# Altium integrated library Analog Devices Data Converters Analog-to-Digital Converters.IntLib: 2404 symbols (part 266 of 346)
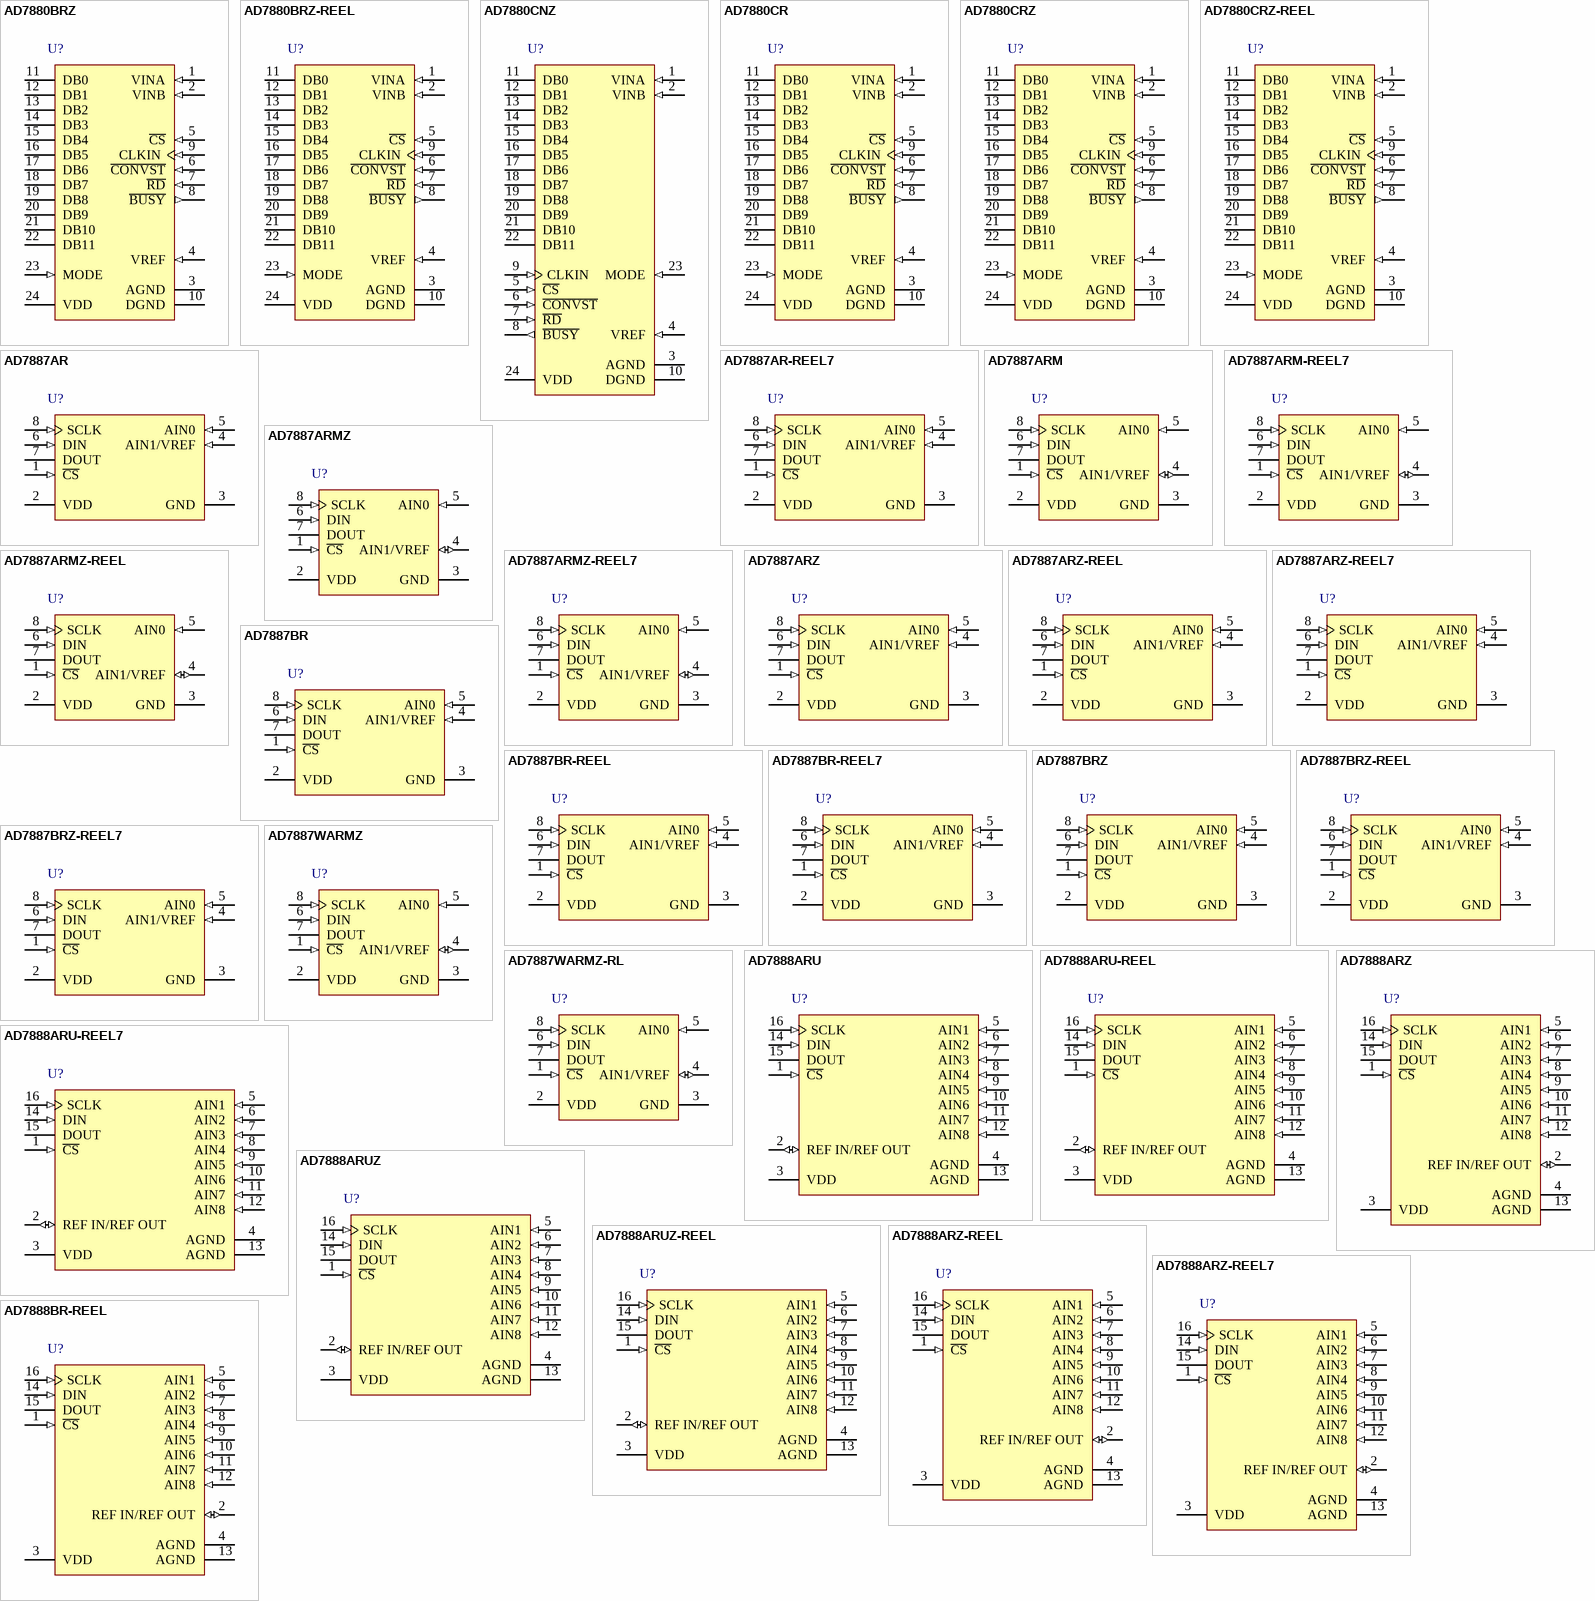
[diagram p296: symbols AD7880BRZ to AD7888BR-REEL]

## AD7888ARZ-REEL
designator U?
Octal 12-Bit Analog-to-Digital Converter with Serial, SPI Interface, Micropower, 2.7 V to 5.25 V, 125KSPS, -40 to +105 degC, R-16, Pb-Free, Reel; Generic Part Number: AD7888; Manufacturer: Analog Devices; PartNumber: AD7888ARZ-REEL; Resolution (Bits): 12; Channels: 8; Throughput Rate (SPS): 125K; Interface: Ser, SPI; DatasheetVersion: Rev.C; PackageVersion: 060606-A; PackageReference: R-16; PackageDescription: 16-Lead Standard Small Outline Package [SOIC_N] Narrow Body; Supplier 1: Digi-Key; Supplier Part Number 1: AD7888ARZ-REEL-ND; Supplier 2: Mouser; Supplier Part Number 2: N/A; RoHS: Y; Packing: Reel; Mounting Technology: Surface Mount; Code_JEDEC: MS-012-AC; ComponentLink1Description: Manufacturer URL; ComponentLink1URL: http://www.analog.com/en/index.html; ComponentLink2Description: Datasheet; ComponentLink2URL: http://www.analog.com/static/imported-files/data_sheets/AD7888.pdf; ComponentLink3Description: Package Specification; ComponentLink3URL: http://www.analog.com/static/imported-files/packages/PKG_PDF/SOIC_Narrow%20(R)/R_16.pdf; ComponentLink4Description: Product URL; ComponentLink4URL: http://www.analog.com/en/analog-to-digital-converters/ad-converters/ad7888/products/product.html
footprint R-16_N (SOIC, 16-Leads, Body 9.9x3.9mm, Pitch 1.27mm, IPC Medium Density)
footprint R-16_L (SOIC, 16-Leads, Body 9.9x3.9mm, Pitch 1.27mm, IPC High Density)
footprint R-16_M (SOIC, 16-Leads, Body 9.9x3.9mm, Pitch 1.27mm, IPC Low Density)
pins: 1 ~{CS} (in) "Chip Select. Active low logic input. This input provides the dual function of initiating conversions on the AD7888 and also frames the serial data transfer.", 2 REF IN/REF OUT (io) "Reference Input/Output. The on-chip reference is available on this pin for use external to the AD7888.", 3 VDD (power) "Power Supply Input. The VDD range for the AD7888 is from 2.7 V to 5.25 V.", 4 AGND (power) "Analog Ground. Ground reference point for all circuitry on the AD7888. All analog input signals and any external reference signals should be referred to this AGND voltage. Both of these pins should connect to the AGND plane (See Datasheet)", 5 AIN1 (in) "Analog Input 1 through Analog Input 8. Eight single-ended analog input channels that are multiplexed into the on-chip track/hold. The analog input channel to be converted is selected by using the ADD0 through ADD2 bits of (See Datasheet)", 6 AIN2 (in) "Analog Input 1 through Analog Input 8. Eight single-ended analog input channels that are multiplexed into the on-chip track/hold. The analog input channel to be converted is selected by using the ADD0 through ADD2 bits of (See Datasheet)", 7 AIN3 (in) "Analog Input 1 through Analog Input 8. Eight single-ended analog input channels that are multiplexed into the on-chip track/hold. The analog input channel to be converted is selected by using the ADD0 through ADD2 bits of (See Datasheet)", 8 AIN4 (in) "Analog Input 1 through Analog Input 8. Eight single-ended analog input channels that are multiplexed into the on-chip track/hold. The analog input channel to be converted is selected by using the ADD0 through ADD2 bits of (See Datasheet)", 9 AIN5 (in) "Analog Input 1 through Analog Input 8. Eight single-ended analog input channels that are multiplexed into the on-chip track/hold. The analog input channel to be converted is selected by using the ADD0 through ADD2 bits of (See Datasheet)", 10 AIN6 (in) "Analog Input 1 through Analog Input 8. Eight single-ended analog input channels that are multiplexed into the on-chip track/hold. The analog input channel to be converted is selected by using the ADD0 through ADD2 bits of (See Datasheet)", 11 AIN7 (in) "Analog Input 1 through Analog Input 8. Eight single-ended analog input channels that are multiplexed into the on-chip track/hold. The analog input channel to be converted is selected by using the ADD0 through ADD2 bits of (See Datasheet)", 12 AIN8 (in) "Analog Input 1 through Analog Input 8. Eight single-ended analog input channels that are multiplexed into the on-chip track/hold. The analog input channel to be converted is selected by using the ADD0 through ADD2 bits of (See Datasheet)", 13 AGND (power) "Analog Ground. Ground reference point for all circuitry on the AD7888. All analog input signals and any external reference signals should be referred to this AGND voltage. Both of these pins should connect to the AGND plane (See Datasheet)", 14 DIN (in) "Data In. Logic Input. Data to be written to the AD7888’s Control Register is provided on this input and is clocked into the register on the rising edge of SCLK (see Control Register section).", 15 DOUT (hiz) "Data Out. Logic Output. The conversion result from the AD7888 is provided on this output as a serial data stream. The bits are clocked out on the falling edge of the SCLK input. The data stream consists data stream. The bits (See Datasheet)", 16 SCLK (in) "Serial Clock. Logic Input. SCLK provides the serial clock for accessing data from the part and writing serial data to the Control Register. This clock input is also used as the clock source for the AD7888’s conversion (See Datasheet)"

## AD7888ARZ-REEL7
designator U?
Octal 12-Bit Analog-to-Digital Converter with Serial, SPI Interface, Micropower, 2.7 V to 5.25 V, 125KSPS, -40 to +105 degC, R-16, Pb-Free, Reel; Generic Part Number: AD7888; Manufacturer: Analog Devices; PartNumber: AD7888ARZ-REEL7; Resolution (Bits): 12; Channels: 8; Throughput Rate (SPS): 125K; Interface: Ser, SPI; DatasheetVersion: Rev.C; PackageVersion: 060606-A; PackageReference: R-16; PackageDescription: 16-Lead Standard Small Outline Package [SOIC_N] Narrow Body; Supplier 1: Digi-Key; Supplier Part Number 1: AD7888ARZ-REEL7TR-ND; Supplier 2: Digi-Key; Supplier Part Number 2: AD7888ARZ-REEL7CT-ND; Supplier 3: Digi-Key; Supplier Part Number 3: AD7888ARZ-REEL7DKR-ND; Supplier 4: Newark; Supplier Part Number 4: 88H0069; Supplier 5: Mouser; Supplier Part Number 5: 584-AD7888ARZ-R7; RoHS: Y; Packing: Reel; Mounting Technology: Surface Mount; Code_JEDEC: MS-012-AC; ComponentLink1Description: Manufacturer URL; ComponentLink1URL: http://www.analog.com/en/index.html; ComponentLink2Description: Datasheet; ComponentLink2URL: http://www.analog.com/static/imported-files/data_sheets/AD7888.pdf; ComponentLink3Description: Package Specification; ComponentLink3URL: http://www.analog.com/static/imported-files/packages/PKG_PDF/SOIC_Narrow%20(R)/R_16.pdf; ComponentLink4Description: Product URL; ComponentLink4URL: http://www.analog.com/en/analog-to-digital-converters/ad-converters/ad7888/products/product.html
footprint R-16_N (SOIC, 16-Leads, Body 9.9x3.9mm, Pitch 1.27mm, IPC Medium Density)
footprint R-16_L (SOIC, 16-Leads, Body 9.9x3.9mm, Pitch 1.27mm, IPC High Density)
footprint R-16_M (SOIC, 16-Leads, Body 9.9x3.9mm, Pitch 1.27mm, IPC Low Density)
pins: 1 ~{CS} (in) "Chip Select. Active low logic input. This input provides the dual function of initiating conversions on the AD7888 and also frames the serial data transfer.", 2 REF IN/REF OUT (io) "Reference Input/Output. The on-chip reference is available on this pin for use external to the AD7888.", 3 VDD (power) "Power Supply Input. The VDD range for the AD7888 is from 2.7 V to 5.25 V.", 4 AGND (power) "Analog Ground. Ground reference point for all circuitry on the AD7888. All analog input signals and any external reference signals should be referred to this AGND voltage. Both of these pins should connect to the AGND plane (See Datasheet)", 5 AIN1 (in) "Analog Input 1 through Analog Input 8. Eight single-ended analog input channels that are multiplexed into the on-chip track/hold. The analog input channel to be converted is selected by using the ADD0 through ADD2 bits of (See Datasheet)", 6 AIN2 (in) "Analog Input 1 through Analog Input 8. Eight single-ended analog input channels that are multiplexed into the on-chip track/hold. The analog input channel to be converted is selected by using the ADD0 through ADD2 bits of (See Datasheet)", 7 AIN3 (in) "Analog Input 1 through Analog Input 8. Eight single-ended analog input channels that are multiplexed into the on-chip track/hold. The analog input channel to be converted is selected by using the ADD0 through ADD2 bits of (See Datasheet)", 8 AIN4 (in) "Analog Input 1 through Analog Input 8. Eight single-ended analog input channels that are multiplexed into the on-chip track/hold. The analog input channel to be converted is selected by using the ADD0 through ADD2 bits of (See Datasheet)", 9 AIN5 (in) "Analog Input 1 through Analog Input 8. Eight single-ended analog input channels that are multiplexed into the on-chip track/hold. The analog input channel to be converted is selected by using the ADD0 through ADD2 bits of (See Datasheet)", 10 AIN6 (in) "Analog Input 1 through Analog Input 8. Eight single-ended analog input channels that are multiplexed into the on-chip track/hold. The analog input channel to be converted is selected by using the ADD0 through ADD2 bits of (See Datasheet)", 11 AIN7 (in) "Analog Input 1 through Analog Input 8. Eight single-ended analog input channels that are multiplexed into the on-chip track/hold. The analog input channel to be converted is selected by using the ADD0 through ADD2 bits of (See Datasheet)", 12 AIN8 (in) "Analog Input 1 through Analog Input 8. Eight single-ended analog input channels that are multiplexed into the on-chip track/hold. The analog input channel to be converted is selected by using the ADD0 through ADD2 bits of (See Datasheet)", 13 AGND (power) "Analog Ground. Ground reference point for all circuitry on the AD7888. All analog input signals and any external reference signals should be referred to this AGND voltage. Both of these pins should connect to the AGND plane (See Datasheet)", 14 DIN (in) "Data In. Logic Input. Data to be written to the AD7888’s Control Register is provided on this input and is clocked into the register on the rising edge of SCLK (see Control Register section).", 15 DOUT (hiz) "Data Out. Logic Output. The conversion result from the AD7888 is provided on this output as a serial data stream. The bits are clocked out on the falling edge of the SCLK input. The data stream consists data stream. The bits (See Datasheet)", 16 SCLK (in) "Serial Clock. Logic Input. SCLK provides the serial clock for accessing data from the part and writing serial data to the Control Register. This clock input is also used as the clock source for the AD7888’s conversion (See Datasheet)"

## AD7888BR-REEL
designator U?
Octal 12-Bit Analog-to-Digital Converter with Serial, SPI Interface, Micropower, 2.7 V to 5.25 V, 125KSPS, -40 to +105 degC, R-16, Reel; Generic Part Number: AD7888; Manufacturer: Analog Devices; PartNumber: AD7888BR-REEL; Resolution (Bits): 12; Channels: 8; Throughput Rate (SPS): 125K; Interface: Ser, SPI; DatasheetVersion: Rev.C; PackageVersion: 060606-A; PackageReference: R-16; PackageDescription: 16-Lead Standard Small Outline Package [SOIC_N] Narrow Body; Supplier 1: Digi-Key; Supplier Part Number 1: AD7888BR-REELTR-ND; Supplier 2: Digi-Key; Supplier Part Number 2: AD7888BR-REELCT-ND; Supplier 3: Digi-Key; Supplier Part Number 3: AD7888BR-REELDKR-ND; Supplier 4: Newark; Supplier Part Number 4: 28M4078; Supplier 5: Mouser; Supplier Part Number 5: 584-AD7888BR-R; RoHS: N; Packing: Reel; Mounting Technology: Surface Mount; Code_JEDEC: MS-012-AC; ComponentLink1Description: Manufacturer URL; ComponentLink1URL: http://www.analog.com/en/index.html; ComponentLink2Description: Datasheet; ComponentLink2URL: http://www.analog.com/static/imported-files/data_sheets/AD7888.pdf; ComponentLink3Description: Package Specification; ComponentLink3URL: http://www.analog.com/static/imported-files/packages/PKG_PDF/SOIC_Narrow%20(R)/R_16.pdf; ComponentLink4Description: Product URL; ComponentLink4URL: http://www.analog.com/en/analog-to-digital-converters/ad-converters/ad7888/products/product.html
footprint R-16_N (SOIC, 16-Leads, Body 9.9x3.9mm, Pitch 1.27mm, IPC Medium Density)
footprint R-16_L (SOIC, 16-Leads, Body 9.9x3.9mm, Pitch 1.27mm, IPC High Density)
footprint R-16_M (SOIC, 16-Leads, Body 9.9x3.9mm, Pitch 1.27mm, IPC Low Density)
pins: 1 ~{CS} (in) "Chip Select. Active low logic input. This input provides the dual function of initiating conversions on the AD7888 and also frames the serial data transfer.", 2 REF IN/REF OUT (io) "Reference Input/Output. The on-chip reference is available on this pin for use external to the AD7888.", 3 VDD (power) "Power Supply Input. The VDD range for the AD7888 is from 2.7 V to 5.25 V.", 4 AGND (power) "Analog Ground. Ground reference point for all circuitry on the AD7888. All analog input signals and any external reference signals should be referred to this AGND voltage. Both of these pins should connect to the AGND plane (See Datasheet)", 5 AIN1 (in) "Analog Input 1 through Analog Input 8. Eight single-ended analog input channels that are multiplexed into the on-chip track/hold. The analog input channel to be converted is selected by using the ADD0 through ADD2 bits of (See Datasheet)", 6 AIN2 (in) "Analog Input 1 through Analog Input 8. Eight single-ended analog input channels that are multiplexed into the on-chip track/hold. The analog input channel to be converted is selected by using the ADD0 through ADD2 bits of (See Datasheet)", 7 AIN3 (in) "Analog Input 1 through Analog Input 8. Eight single-ended analog input channels that are multiplexed into the on-chip track/hold. The analog input channel to be converted is selected by using the ADD0 through ADD2 bits of (See Datasheet)", 8 AIN4 (in) "Analog Input 1 through Analog Input 8. Eight single-ended analog input channels that are multiplexed into the on-chip track/hold. The analog input channel to be converted is selected by using the ADD0 through ADD2 bits of (See Datasheet)", 9 AIN5 (in) "Analog Input 1 through Analog Input 8. Eight single-ended analog input channels that are multiplexed into the on-chip track/hold. The analog input channel to be converted is selected by using the ADD0 through ADD2 bits of (See Datasheet)", 10 AIN6 (in) "Analog Input 1 through Analog Input 8. Eight single-ended analog input channels that are multiplexed into the on-chip track/hold. The analog input channel to be converted is selected by using the ADD0 through ADD2 bits of (See Datasheet)", 11 AIN7 (in) "Analog Input 1 through Analog Input 8. Eight single-ended analog input channels that are multiplexed into the on-chip track/hold. The analog input channel to be converted is selected by using the ADD0 through ADD2 bits of (See Datasheet)", 12 AIN8 (in) "Analog Input 1 through Analog Input 8. Eight single-ended analog input channels that are multiplexed into the on-chip track/hold. The analog input channel to be converted is selected by using the ADD0 through ADD2 bits of (See Datasheet)", 13 AGND (power) "Analog Ground. Ground reference point for all circuitry on the AD7888. All analog input signals and any external reference signals should be referred to this AGND voltage. Both of these pins should connect to the AGND plane (See Datasheet)", 14 DIN (in) "Data In. Logic Input. Data to be written to the AD7888’s Control Register is provided on this input and is clocked into the register on the rising edge of SCLK (see Control Register section).", 15 DOUT (hiz) "Data Out. Logic Output. The conversion result from the AD7888 is provided on this output as a serial data stream. The bits are clocked out on the falling edge of the SCLK input. The data stream consists data stream. The bits (See Datasheet)", 16 SCLK (in) "Serial Clock. Logic Input. SCLK provides the serial clock for accessing data from the part and writing serial data to the Control Register. This clock input is also used as the clock source for the AD7888’s conversion (See Datasheet)"

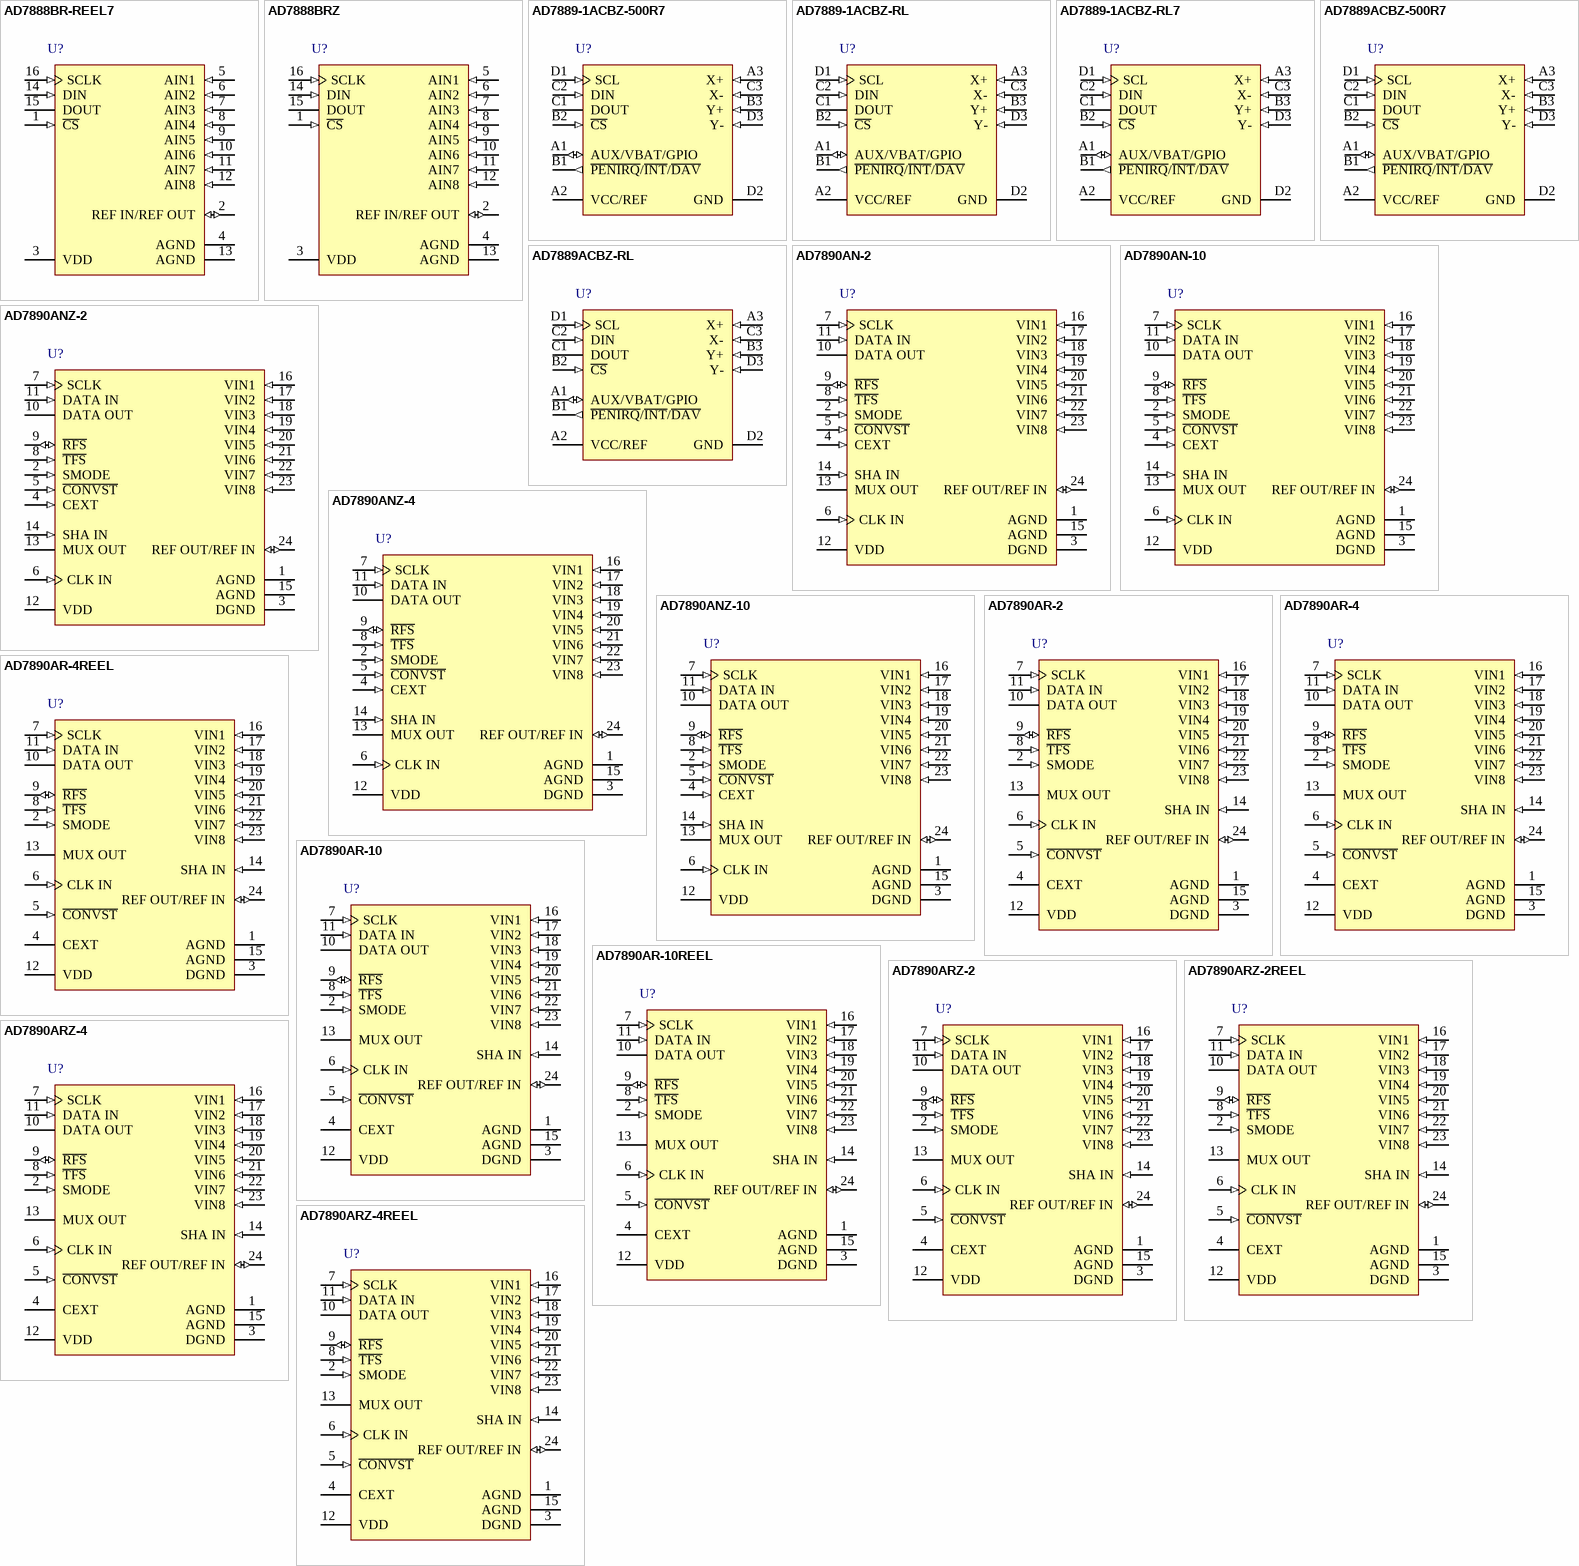
[diagram p79: symbols AD7888BR-REEL7 to AD7890ARZ-4REEL]

## AD7888BR-REEL7
designator U?
Octal 12-Bit Analog-to-Digital Converter with Serial, SPI Interface, Micropower, 2.7 V to 5.25 V, 125KSPS, -40 to +105 degC, R-16, Reel; Generic Part Number: AD7888; Manufacturer: Analog Devices; PartNumber: AD7888BR-REEL7; Resolution (Bits): 12; Channels: 8; Throughput Rate (SPS): 125K; Interface: Ser, SPI; DatasheetVersion: Rev.C; PackageVersion: 060606-A; PackageReference: R-16; PackageDescription: 16-Lead Standard Small Outline Package [SOIC_N] Narrow Body; Supplier 1: Digi-Key; Supplier Part Number 1: AD7888BR-REEL7TR-ND; Supplier 2: Digi-Key; Supplier Part Number 2: AD7888BR-REEL7CT-ND; Supplier 3: Digi-Key; Supplier Part Number 3: AD7888BR-REEL7DKR-ND; Supplier 4: Newark; Supplier Part Number 4: 28M4079; Supplier 5: Mouser; Supplier Part Number 5: 584-AD7888BR-R7; RoHS: N; Packing: Reel; Mounting Technology: Surface Mount; Code_JEDEC: MS-012-AC; ComponentLink1Description: Manufacturer URL; ComponentLink1URL: http://www.analog.com/en/index.html; ComponentLink2Description: Datasheet; ComponentLink2URL: http://www.analog.com/static/imported-files/data_sheets/AD7888.pdf; ComponentLink3Description: Package Specification; ComponentLink3URL: http://www.analog.com/static/imported-files/packages/PKG_PDF/SOIC_Narrow%20(R)/R_16.pdf; ComponentLink4Description: Product URL; ComponentLink4URL: http://www.analog.com/en/analog-to-digital-converters/ad-converters/ad7888/products/product.html
footprint R-16_N (SOIC, 16-Leads, Body 9.9x3.9mm, Pitch 1.27mm, IPC Medium Density)
footprint R-16_L (SOIC, 16-Leads, Body 9.9x3.9mm, Pitch 1.27mm, IPC High Density)
footprint R-16_M (SOIC, 16-Leads, Body 9.9x3.9mm, Pitch 1.27mm, IPC Low Density)
pins: 1 ~{CS} (in) "Chip Select. Active low logic input. This input provides the dual function of initiating conversions on the AD7888 and also frames the serial data transfer.", 2 REF IN/REF OUT (io) "Reference Input/Output. The on-chip reference is available on this pin for use external to the AD7888.", 3 VDD (power) "Power Supply Input. The VDD range for the AD7888 is from 2.7 V to 5.25 V.", 4 AGND (power) "Analog Ground. Ground reference point for all circuitry on the AD7888. All analog input signals and any external reference signals should be referred to this AGND voltage. Both of these pins should connect to the AGND plane (See Datasheet)", 5 AIN1 (in) "Analog Input 1 through Analog Input 8. Eight single-ended analog input channels that are multiplexed into the on-chip track/hold. The analog input channel to be converted is selected by using the ADD0 through ADD2 bits of (See Datasheet)", 6 AIN2 (in) "Analog Input 1 through Analog Input 8. Eight single-ended analog input channels that are multiplexed into the on-chip track/hold. The analog input channel to be converted is selected by using the ADD0 through ADD2 bits of (See Datasheet)", 7 AIN3 (in) "Analog Input 1 through Analog Input 8. Eight single-ended analog input channels that are multiplexed into the on-chip track/hold. The analog input channel to be converted is selected by using the ADD0 through ADD2 bits of (See Datasheet)", 8 AIN4 (in) "Analog Input 1 through Analog Input 8. Eight single-ended analog input channels that are multiplexed into the on-chip track/hold. The analog input channel to be converted is selected by using the ADD0 through ADD2 bits of (See Datasheet)", 9 AIN5 (in) "Analog Input 1 through Analog Input 8. Eight single-ended analog input channels that are multiplexed into the on-chip track/hold. The analog input channel to be converted is selected by using the ADD0 through ADD2 bits of (See Datasheet)", 10 AIN6 (in) "Analog Input 1 through Analog Input 8. Eight single-ended analog input channels that are multiplexed into the on-chip track/hold. The analog input channel to be converted is selected by using the ADD0 through ADD2 bits of (See Datasheet)", 11 AIN7 (in) "Analog Input 1 through Analog Input 8. Eight single-ended analog input channels that are multiplexed into the on-chip track/hold. The analog input channel to be converted is selected by using the ADD0 through ADD2 bits of (See Datasheet)", 12 AIN8 (in) "Analog Input 1 through Analog Input 8. Eight single-ended analog input channels that are multiplexed into the on-chip track/hold. The analog input channel to be converted is selected by using the ADD0 through ADD2 bits of (See Datasheet)", 13 AGND (power) "Analog Ground. Ground reference point for all circuitry on the AD7888. All analog input signals and any external reference signals should be referred to this AGND voltage. Both of these pins should connect to the AGND plane (See Datasheet)", 14 DIN (in) "Data In. Logic Input. Data to be written to the AD7888’s Control Register is provided on this input and is clocked into the register on the rising edge of SCLK (see Control Register section).", 15 DOUT (hiz) "Data Out. Logic Output. The conversion result from the AD7888 is provided on this output as a serial data stream. The bits are clocked out on the falling edge of the SCLK input. The data stream consists data stream. The bits (See Datasheet)", 16 SCLK (in) "Serial Clock. Logic Input. SCLK provides the serial clock for accessing data from the part and writing serial data to the Control Register. This clock input is also used as the clock source for the AD7888’s conversion (See Datasheet)"

## AD7888BRZ
designator U?
Octal 12-Bit Analog-to-Digital Converter with Serial, SPI Interface, Micropower, 2.7 V to 5.25 V, 125KSPS, -40 to +105 degC, R-16, Pb-Free, Tube; Generic Part Number: AD7888; Manufacturer: Analog Devices; PartNumber: AD7888BRZ; Resolution (Bits): 12; Channels: 8; Throughput Rate (SPS): 125K; Interface: Ser, SPI; DatasheetVersion: Rev.C; PackageVersion: 060606-A; PackageReference: R-16; PackageDescription: 16-Lead Standard Small Outline Package [SOIC_N] Narrow Body; Supplier 1: Digi-Key; Supplier Part Number 1: AD7888BRZ-ND; Supplier 2: Newark; Supplier Part Number 2: 59K5829; Supplier 3: Mouser; Supplier Part Number 3: 584-AD7888BRZ; RoHS: Y; Packing: Tube; Mounting Technology: Surface Mount; Code_JEDEC: MS-012-AC; ComponentLink1Description: Manufacturer URL; ComponentLink1URL: http://www.analog.com/en/index.html; ComponentLink2Description: Datasheet; ComponentLink2URL: http://www.analog.com/static/imported-files/data_sheets/AD7888.pdf; ComponentLink3Description: Package Specification; ComponentLink3URL: http://www.analog.com/static/imported-files/packages/PKG_PDF/SOIC_Narrow%20(R)/R_16.pdf; ComponentLink4Description: Product URL; ComponentLink4URL: http://www.analog.com/en/analog-to-digital-converters/ad-converters/ad7888/products/product.html
footprint R-16_N (SOIC, 16-Leads, Body 9.9x3.9mm, Pitch 1.27mm, IPC Medium Density)
footprint R-16_L (SOIC, 16-Leads, Body 9.9x3.9mm, Pitch 1.27mm, IPC High Density)
footprint R-16_M (SOIC, 16-Leads, Body 9.9x3.9mm, Pitch 1.27mm, IPC Low Density)
pins: 1 ~{CS} (in) "Chip Select. Active low logic input. This input provides the dual function of initiating conversions on the AD7888 and also frames the serial data transfer.", 2 REF IN/REF OUT (io) "Reference Input/Output. The on-chip reference is available on this pin for use external to the AD7888.", 3 VDD (power) "Power Supply Input. The VDD range for the AD7888 is from 2.7 V to 5.25 V.", 4 AGND (power) "Analog Ground. Ground reference point for all circuitry on the AD7888. All analog input signals and any external reference signals should be referred to this AGND voltage. Both of these pins should connect to the AGND plane (See Datasheet)", 5 AIN1 (in) "Analog Input 1 through Analog Input 8. Eight single-ended analog input channels that are multiplexed into the on-chip track/hold. The analog input channel to be converted is selected by using the ADD0 through ADD2 bits of (See Datasheet)", 6 AIN2 (in) "Analog Input 1 through Analog Input 8. Eight single-ended analog input channels that are multiplexed into the on-chip track/hold. The analog input channel to be converted is selected by using the ADD0 through ADD2 bits of (See Datasheet)", 7 AIN3 (in) "Analog Input 1 through Analog Input 8. Eight single-ended analog input channels that are multiplexed into the on-chip track/hold. The analog input channel to be converted is selected by using the ADD0 through ADD2 bits of (See Datasheet)", 8 AIN4 (in) "Analog Input 1 through Analog Input 8. Eight single-ended analog input channels that are multiplexed into the on-chip track/hold. The analog input channel to be converted is selected by using the ADD0 through ADD2 bits of (See Datasheet)", 9 AIN5 (in) "Analog Input 1 through Analog Input 8. Eight single-ended analog input channels that are multiplexed into the on-chip track/hold. The analog input channel to be converted is selected by using the ADD0 through ADD2 bits of (See Datasheet)", 10 AIN6 (in) "Analog Input 1 through Analog Input 8. Eight single-ended analog input channels that are multiplexed into the on-chip track/hold. The analog input channel to be converted is selected by using the ADD0 through ADD2 bits of (See Datasheet)", 11 AIN7 (in) "Analog Input 1 through Analog Input 8. Eight single-ended analog input channels that are multiplexed into the on-chip track/hold. The analog input channel to be converted is selected by using the ADD0 through ADD2 bits of (See Datasheet)", 12 AIN8 (in) "Analog Input 1 through Analog Input 8. Eight single-ended analog input channels that are multiplexed into the on-chip track/hold. The analog input channel to be converted is selected by using the ADD0 through ADD2 bits of (See Datasheet)", 13 AGND (power) "Analog Ground. Ground reference point for all circuitry on the AD7888. All analog input signals and any external reference signals should be referred to this AGND voltage. Both of these pins should connect to the AGND plane (See Datasheet)", 14 DIN (in) "Data In. Logic Input. Data to be written to the AD7888’s Control Register is provided on this input and is clocked into the register on the rising edge of SCLK (see Control Register section).", 15 DOUT (hiz) "Data Out. Logic Output. The conversion result from the AD7888 is provided on this output as a serial data stream. The bits are clocked out on the falling edge of the SCLK input. The data stream consists data stream. The bits (See Datasheet)", 16 SCLK (in) "Serial Clock. Logic Input. SCLK provides the serial clock for accessing data from the part and writing serial data to the Control Register. This clock input is also used as the clock source for the AD7888’s conversion (See Datasheet)"

## AD7889-1ACBZ-500R7
designator U?
6 Channel 12-Bit Analog-to-Digital Converter for Touch Screens with I2C / Serial 2-Wire, Serial, SPI Interface, 105KSPS, -40 to +85 degC, CB-12-5, Pb-Free, Reel; Generic Part Number: AD7889; Manufacturer: Analog Devices; PartNumber: AD7889-1ACBZ-500R7; Resolution (Bits): 12; Channels: 6; Throughput Rate (SPS): 105K; Interface: I2C/Ser 2-Wire, Ser, SPI; DatasheetVersion: Rev.C; PackageVersion: 120508-A; PackageReference: CB-12-5; PackageDescription: 12-Ball, Backside-Coated, Wafer Level Chip Scale Package [WLCSP]; Supplier 1: Digi-Key; Supplier Part Number 1: AD7889-1ACBZ-500R7TR-ND; Supplier 2: Digi-Key; Supplier Part Number 2: AD7889-1ACBZ-500R7CT-ND; Supplier 3: Digi-Key; Supplier Part Number 3: AD7889-1ACBZ-500R7DKR-ND; Supplier 4: Mouser; Supplier Part Number 4: 584-AD78891ACBZ500R7; RoHS: Y; Packing: Reel; Mounting Technology: Surface Mount; ComponentLink1Description: Manufacturer URL; ComponentLink1URL: http://www.analog.com/en/index.html; ComponentLink2Description: Datasheet; ComponentLink2URL: http://www.analog.com/static/imported-files/data_sheets/AD7879_7889.pdf; ComponentLink3Description: Package Specification; ComponentLink3URL: http://www.analog.com/static/imported-files/packages/PKG_PDF/WLCSP(CB)/CB_12_5.pdf; ComponentLink4Description: Product URL; ComponentLink4URL: http://www.analog.com/en/analog-to-digital-converters/ad-converters/ad7889/products/product.html
footprint CB-12-5 (BGA, 12-Leads, Body 2.01x1.51mm, Pitch 0.5mm)
pins: A1 AUX/VBAT/GPIO (io) "This pin can be programmed as an auxiliary input to the ADC (AUX), as a battery measure-ment input to the ADC (VBAT), or as a general-purpose digital input/output (GPIO).", A2 VCC/REF (power) "Power Supply Input and ADC Reference.", A3 X+ (in) "Touch Screen Input Channel.", B1 ~{PENIRQ}/~{INT}/~{DAV} (out) "Interrupt Output. This pin is asserted when the screen is touched (P\E\N\I\R\Q\), when a measure-ment exceeds the preprogrammed limits (I\N\T\), or when new data is available in the registers (D\A\V\). Active low, internal (See Datasheet)", B2 ~{CS} (in) "Chip Select for the SPI Serial Interface on the AD7879/AD7889. Active low.", B3 Y+ (in) "Touch Screen Input Channel.", C1 DOUT (hiz) "SPI Serial Data Output for the AD7879/AD7889.", C2 DIN (in) "SPI Serial Data Input to the AD7879/AD7889.", C3 X- (in) "Touch Screen Input Channel.", D1 SCL (in) "Serial Interface Clock Input.", D2 GND (power) "Ground. Ground reference point for all circuitry on the AD7879/AD7889. All analog input signals and any external reference signal should be referred to this voltage.", D3 Y- (in) "Touch Screen Input Channel."

## AD7889-1ACBZ-RL
designator U?
6 Channel 12-Bit Analog-to-Digital Converter for Touch Screens with I2C / Serial 2-Wire, Serial, SPI Interface, 105KSPS, -40 to +85 degC, CB-12-5, Pb-Free, Reel; Generic Part Number: AD7889; Manufacturer: Analog Devices; PartNumber: AD7889-1ACBZ-RL; Resolution (Bits): 12; Channels: 6; Throughput Rate (SPS): 105K; Interface: I2C/Ser 2-Wire, Ser, SPI; DatasheetVersion: Rev.C; PackageVersion: 120508-A; PackageReference: CB-12-5; PackageDescription: 12-Ball, Backside-Coated, Wafer Level Chip Scale Package [WLCSP]; Supplier 1: Digi-Key; Supplier Part Number 1: AD7889-1ACBZ-RL-ND; Supplier 2: Mouser; Supplier Part Number 2: 584-AD7889-1ACBZ-R; RoHS: Y; Packing: Reel; Mounting Technology: Surface Mount; ComponentLink1Description: Manufacturer URL; ComponentLink1URL: http://www.analog.com/en/index.html; ComponentLink2Description: Datasheet; ComponentLink2URL: http://www.analog.com/static/imported-files/data_sheets/AD7879_7889.pdf; ComponentLink3Description: Package Specification; ComponentLink3URL: http://www.analog.com/static/imported-files/packages/PKG_PDF/WLCSP(CB)/CB_12_5.pdf; ComponentLink4Description: Product URL; ComponentLink4URL: http://www.analog.com/en/analog-to-digital-converters/ad-converters/ad7889/products/product.html
footprint CB-12-5 (BGA, 12-Leads, Body 2.01x1.51mm, Pitch 0.5mm)
pins: A1 AUX/VBAT/GPIO (io) "This pin can be programmed as an auxiliary input to the ADC (AUX), as a battery measure-ment input to the ADC (VBAT), or as a general-purpose digital input/output (GPIO).", A2 VCC/REF (power) "Power Supply Input and ADC Reference.", A3 X+ (in) "Touch Screen Input Channel.", B1 ~{PENIRQ}/~{INT}/~{DAV} (out) "Interrupt Output. This pin is asserted when the screen is touched (P\E\N\I\R\Q\), when a measure-ment exceeds the preprogrammed limits (I\N\T\), or when new data is available in the registers (D\A\V\). Active low, internal (See Datasheet)", B2 ~{CS} (in) "Chip Select for the SPI Serial Interface on the AD7879/AD7889. Active low.", B3 Y+ (in) "Touch Screen Input Channel.", C1 DOUT (hiz) "SPI Serial Data Output for the AD7879/AD7889.", C2 DIN (in) "SPI Serial Data Input to the AD7879/AD7889.", C3 X- (in) "Touch Screen Input Channel.", D1 SCL (in) "Serial Interface Clock Input.", D2 GND (power) "Ground. Ground reference point for all circuitry on the AD7879/AD7889. All analog input signals and any external reference signal should be referred to this voltage.", D3 Y- (in) "Touch Screen Input Channel."

## AD7889-1ACBZ-RL7
designator U?
6 Channel 12-Bit Analog-to-Digital Converter for Touch Screens with I2C / Serial 2-Wire, Serial, SPI Interface, 105KSPS, -40 to +85 degC, CB-12-5, Pb-Free, Reel; Generic Part Number: AD7889; Manufacturer: Analog Devices; PartNumber: AD7889-1ACBZ-RL7; Resolution (Bits): 12; Channels: 6; Throughput Rate (SPS): 105K; Interface: I2C/Ser 2-Wire, Ser, SPI; DatasheetVersion: Rev.C; PackageVersion: 120508-A; PackageReference: CB-12-5; PackageDescription: 12-Ball, Backside-Coated, Wafer Level Chip Scale Package [WLCSP]; Supplier 1: Digi-Key; Supplier Part Number 1: AD7889-1ACBZ-RL7TR-ND; Supplier 2: Digi-Key; Supplier Part Number 2: AD7889-1ACBZ-RL7CT-ND; Supplier 3: Digi-Key; Supplier Part Number 3: AD7889-1ACBZ-RL7DKR-ND; Supplier 4: Mouser; Supplier Part Number 4: 584-AD7889-1ACBZ-R7; RoHS: Y; Packing: Reel; Mounting Technology: Surface Mount; ComponentLink1Description: Manufacturer URL; ComponentLink1URL: http://www.analog.com/en/index.html; ComponentLink2Description: Datasheet; ComponentLink2URL: http://www.analog.com/static/imported-files/data_sheets/AD7879_7889.pdf; ComponentLink3Description: Package Specification; ComponentLink3URL: http://www.analog.com/static/imported-files/packages/PKG_PDF/WLCSP(CB)/CB_12_5.pdf; ComponentLink4Description: Product URL; ComponentLink4URL: http://www.analog.com/en/analog-to-digital-converters/ad-converters/ad7889/products/product.html
footprint CB-12-5 (BGA, 12-Leads, Body 2.01x1.51mm, Pitch 0.5mm)
pins: A1 AUX/VBAT/GPIO (io) "This pin can be programmed as an auxiliary input to the ADC (AUX), as a battery measure-ment input to the ADC (VBAT), or as a general-purpose digital input/output (GPIO).", A2 VCC/REF (power) "Power Supply Input and ADC Reference.", A3 X+ (in) "Touch Screen Input Channel.", B1 ~{PENIRQ}/~{INT}/~{DAV} (out) "Interrupt Output. This pin is asserted when the screen is touched (P\E\N\I\R\Q\), when a measure-ment exceeds the preprogrammed limits (I\N\T\), or when new data is available in the registers (D\A\V\). Active low, internal (See Datasheet)", B2 ~{CS} (in) "Chip Select for the SPI Serial Interface on the AD7879/AD7889. Active low.", B3 Y+ (in) "Touch Screen Input Channel.", C1 DOUT (hiz) "SPI Serial Data Output for the AD7879/AD7889.", C2 DIN (in) "SPI Serial Data Input to the AD7879/AD7889.", C3 X- (in) "Touch Screen Input Channel.", D1 SCL (in) "Serial Interface Clock Input.", D2 GND (power) "Ground. Ground reference point for all circuitry on the AD7879/AD7889. All analog input signals and any external reference signal should be referred to this voltage.", D3 Y- (in) "Touch Screen Input Channel."

## AD7889ACBZ-500R7
designator U?
6 Channel 12-Bit Analog-to-Digital Converter for Touch Screens with I2C / Serial 2-Wire, Serial, SPI Interface, 105KSPS, -40 to +85 degC, CB-12-5, Pb-Free, Reel; Generic Part Number: AD7889; Manufacturer: Analog Devices; PartNumber: AD7889ACBZ-500R7; Resolution (Bits): 12; Channels: 6; Throughput Rate (SPS): 105K; Interface: I2C/Ser 2-Wire, Ser, SPI; DatasheetVersion: Rev.C; PackageVersion: 120508-A; PackageReference: CB-12-5; PackageDescription: 12-Ball, Backside-Coated, Wafer Level Chip Scale Package [WLCSP]; Supplier 1: Digi-Key; Supplier Part Number 1: AD7889ACBZ-500R7TR-ND; Supplier 2: Digi-Key; Supplier Part Number 2: AD7889ACBZ-500R7CT-ND; Supplier 3: Digi-Key; Supplier Part Number 3: AD7889ACBZ-500R7DKR-ND; Supplier 4: Mouser; Supplier Part Number 4: 584-AD7889ACBZ-500R7; RoHS: Y; Packing: Reel; Mounting Technology: Surface Mount; ComponentLink1Description: Manufacturer URL; ComponentLink1URL: http://www.analog.com/en/index.html; ComponentLink2Description: Datasheet; ComponentLink2URL: http://www.analog.com/static/imported-files/data_sheets/AD7879_7889.pdf; ComponentLink3Description: Package Specification; ComponentLink3URL: http://www.analog.com/static/imported-files/packages/PKG_PDF/WLCSP(CB)/CB_12_5.pdf; ComponentLink4Description: Product URL; ComponentLink4URL: http://www.analog.com/en/analog-to-digital-converters/ad-converters/ad7889/products/product.html
footprint CB-12-5 (BGA, 12-Leads, Body 2.01x1.51mm, Pitch 0.5mm)
pins: A1 AUX/VBAT/GPIO (io) "This pin can be programmed as an auxiliary input to the ADC (AUX), as a battery measure-ment input to the ADC (VBAT), or as a general-purpose digital input/output (GPIO).", A2 VCC/REF (power) "Power Supply Input and ADC Reference.", A3 X+ (in) "Touch Screen Input Channel.", B1 ~{PENIRQ}/~{INT}/~{DAV} (out) "Interrupt Output. This pin is asserted when the screen is touched (P\E\N\I\R\Q\), when a measure-ment exceeds the preprogrammed limits (I\N\T\), or when new data is available in the registers (D\A\V\). Active low, internal (See Datasheet)", B2 ~{CS} (in) "Chip Select for the SPI Serial Interface on the AD7879/AD7889. Active low.", B3 Y+ (in) "Touch Screen Input Channel.", C1 DOUT (hiz) "SPI Serial Data Output for the AD7879/AD7889.", C2 DIN (in) "SPI Serial Data Input to the AD7879/AD7889.", C3 X- (in) "Touch Screen Input Channel.", D1 SCL (in) "Serial Interface Clock Input.", D2 GND (power) "Ground. Ground reference point for all circuitry on the AD7879/AD7889. All analog input signals and any external reference signal should be referred to this voltage.", D3 Y- (in) "Touch Screen Input Channel."

## AD7889ACBZ-RL
designator U?
6 Channel 12-Bit Analog-to-Digital Converter for Touch Screens with I2C / Serial 2-Wire, Serial, SPI Interface, 105KSPS, -40 to +85 degC, CB-12-5, Pb-Free, Reel; Generic Part Number: AD7889; Manufacturer: Analog Devices; PartNumber: AD7889ACBZ-RL; Resolution (Bits): 12; Channels: 6; Throughput Rate (SPS): 105K; Interface: I2C/Ser 2-Wire, Ser, SPI; DatasheetVersion: Rev.C; PackageVersion: 120508-A; PackageReference: CB-12-5; PackageDescription: 12-Ball, Backside-Coated, Wafer Level Chip Scale Package [WLCSP]; Supplier 1: Digi-Key; Supplier Part Number 1: AD7889ACBZ-RL-ND; Supplier 2: Mouser; Supplier Part Number 2: 584-AD7889ACBZ-R; RoHS: Y; Packing: Reel; Mounting Technology: Surface Mount; ComponentLink1Description: Manufacturer URL; ComponentLink1URL: http://www.analog.com/en/index.html; ComponentLink2Description: Datasheet; ComponentLink2URL: http://www.analog.com/static/imported-files/data_sheets/AD7879_7889.pdf; ComponentLink3Description: Package Specification; ComponentLink3URL: http://www.analog.com/static/imported-files/packages/PKG_PDF/WLCSP(CB)/CB_12_5.pdf; ComponentLink4Description: Product URL; ComponentLink4URL: http://www.analog.com/en/analog-to-digital-converters/ad-converters/ad7889/products/product.html
footprint CB-12-5 (BGA, 12-Leads, Body 2.01x1.51mm, Pitch 0.5mm)
pins: A1 AUX/VBAT/GPIO (io) "This pin can be programmed as an auxiliary input to the ADC (AUX), as a battery measure-ment input to the ADC (VBAT), or as a general-purpose digital input/output (GPIO).", A2 VCC/REF (power) "Power Supply Input and ADC Reference.", A3 X+ (in) "Touch Screen Input Channel.", B1 ~{PENIRQ}/~{INT}/~{DAV} (out) "Interrupt Output. This pin is asserted when the screen is touched (P\E\N\I\R\Q\), when a measure-ment exceeds the preprogrammed limits (I\N\T\), or when new data is available in the registers (D\A\V\). Active low, internal (See Datasheet)", B2 ~{CS} (in) "Chip Select for the SPI Serial Interface on the AD7879/AD7889. Active low.", B3 Y+ (in) "Touch Screen Input Channel.", C1 DOUT (hiz) "SPI Serial Data Output for the AD7879/AD7889.", C2 DIN (in) "SPI Serial Data Input to the AD7879/AD7889.", C3 X- (in) "Touch Screen Input Channel.", D1 SCL (in) "Serial Interface Clock Input.", D2 GND (power) "Ground. Ground reference point for all circuitry on the AD7879/AD7889. All analog input signals and any external reference signal should be referred to this voltage.", D3 Y- (in) "Touch Screen Input Channel."

## AD7890AN-2
designator U?
LC2MOS 8 Channel, 12-Bit Serial Data Acquisition System, 117KSPS, -40 to +85 degC, N-24-1, Tube; Generic Part Number: AD7890; Manufacturer: Analog Devices; PartNumber: AD7890AN-2; Resolution (Bits): 12; Channels: 8; Throughput Rate (SPS): 117K; Interface: Ser; DatasheetVersion: Rev.C; PackageVersion: 071006-A; PackageReference: N-24-1; PackageDescription: 24-Lead Plastic Dual In-Line Package [PDIP] Narrow Body; Supplier 1: Digi-Key; Supplier Part Number 1: AD7890AN-2-ND; RoHS: N; Packing: Tube; Mounting Technology: Through-hole; Code_JEDEC: MS-001; ComponentLink1Description: Manufacturer URL; ComponentLink1URL: http://www.analog.com/en/index.html; ComponentLink2Description: Datasheet; ComponentLink2URL: http://www.analog.com/static/imported-files/data_sheets/AD7890.pdf; ComponentLink3Description: Package Specification; ComponentLink3URL: http://www.analog.com/static/imported-files/packages/50726455539629N_24_1.pdf; ComponentLink4Description: Product URL; ComponentLink4URL: http://www.analog.com/en/analog-to-digital-converters/ad-converters/ad7890/products/product.html
footprint N-24-1 (DIP, 24-Leads, Row Spacing 7.62mm, Pitch 2.54mm, Body 31.9x6.6mm)
pins: 1 AGND (power) "Analog Ground. Ground reference for track/hold, comparator, and DAC.", 2 SMODE (in) "Control Input. Determines whether the part operates in its external clocking (slave) or self-clocking (master)serial mode. With SMODE at a logic low, the part is in its self-clocking serial mode with R\F\S\ and SCLK as (See Datasheet)", 3 DGND (power) "Digital Ground. Ground reference for digital circuitry.", 4 CEXT (in) "External Capacitor. An external capacitor is connected to this pin to determine the length of the internal pulse (see the Control Register section). Larger capacitances on this pin extend the pulse to allow for settling time (See Datasheet)", 5 ~{CONVST} (in) "Convert Start. Edge-triggered logic input. A low-to-high transition on this input puts the track/hold into hold and initiates conversion if the internal pulse has timed out (see the Control Register section). If the internal (See Datasheet)", 6 CLK IN (in) "Clock Input. An external TTL-compatible clock is applied to this input pin to provide the clock source for the conversion sequence. In the self-clocking serial mode, the SCLK output is derived from this CLK IN pin.", 7 SCLK (in) "Serial Clock Input. In the external clocking (slave) mode (see the Serial Interface section), this is an externally applied serial clock used to load serial data to the control register and to access data from the output (See Datasheet)", 8 ~{TFS} (in) "Transmit Frame Synchronization Pulse. Active low logic input with serial data expected after the falling edge of this signal.", 9 ~{RFS} (io) "Receive Frame Synchronization Pulse. In the external clocking mode, this pin is an active low logic input with R\F\S\ provided externally as a strobe or framing pulse to access serial data from the output register. In the (See Datasheet)", 10 DATA OUT (hiz) "Serial Data Output. Sixteen bits of serial data are provided with one leading zero, preceding the three address bits of the control register and the 12 bits of conversion data. Serial data is valid on the falling edge of (See Datasheet)", 11 DATA IN (in) "Serial Data Input. Serial data to be loaded to the control register is provided at this input. The first five bits of serial data are loaded to the control register on the first five falling edges of SCLK after T\F\S\ goes (See Datasheet)", 12 VDD (power) "Positive Supply Voltage, 5 V +/- 5%.", 13 MUX OUT (hiz) "Multiplexer Output. The output of the multiplexer appears at this pin. The output voltage range from this output is 0 V to 2.5 V for the nominal analog input range to the selected channel. The output impedance of this output (See Datasheet)", 14 SHA IN (in) "Track/Hold Input. The input to the on-chip track/hold is applied to this pin. It is a high impedance input and the input voltage range is 0 V to 2.5 V.", 15 AGND (power) "Analog Ground. Ground reference for track/hold, comparator, and DAC.", 16 VIN1 (in) "Analog Input Channel 1. Single-ended analog input. The analog input range on is +/-10 V (AD7890-10), 0 V to 4.096 V (AD7890-4), and 0 V to 2.5 V (AD7890-2). The channel to be converted is selected using the A0, A1, and A2 (See Datasheet)", 17 VIN2 (in) "Analog Input Channel 2. Single-ended analog input. The analog input range on is +/-10 V (AD7890-10), 0 V to 4.096 V (AD7890-4), and 0 V to 2.5 V (AD7890-2). The channel to be converted is selected using the A0, A1, and A2 (See Datasheet)", 18 VIN3 (in) "Analog Input Channel 3. Single-ended analog input. The analog input range on is +/-10 V (AD7890-10), 0 V to 4.096 V (AD7890-4), and 0 V to 2.5 V (AD7890-2). The channel to be converted is selected using the A0, A1, and A2 (See Datasheet)", 19 VIN4 (in) "Analog Input Channel 4. Single-ended analog input. The analog input range on is +/-10 V (AD7890-10), 0 V to 4.096 V (AD7890-4), and 0 V to 2.5 V (AD7890-2). The channel to be converted is selected using the A0, A1, and A2 (See Datasheet)", 20 VIN5 (in) "Analog Input Channel 5. Single-ended analog input. The analog input range on is +/-10 V (AD7890-10), 0 V to 4.096 V (AD7890-4), and 0 V to 2.5 V (AD7890-2). The channel to be converted is selected using the A0, A1, and A2 (See Datasheet)", 21 VIN6 (in) "Analog Input Channel 6. Single-ended analog input. The analog input range on is +/-10 V (AD7890-10), 0 V to 4.096 V (AD7890-4), and 0 V to 2.5 V (AD7890-2). The channel to be converted is selected using the A0, A1, and A2 (See Datasheet)", 22 VIN7 (in) "Analog Input Channel 7. Single-ended analog input. The analog input range on is +/-10 V (AD7890-10), 0 V to 4.096 V (AD7890-4), and 0 V to 2.5 V (AD7890-2). The channel to be converted is selected using the A0, A1, and A2 (See Datasheet)", 23 VIN8 (in) "Analog Input Channel 8. Single-ended analog input. The analog input range on is +/-10 V (AD7890-10), 0 V to 4.096 V (AD7890-4) and 0 V to 2.5 V (AD7890-2). The channel to be converted is selected using the A0, A1, and A2 (See Datasheet)", 24 REF OUT/REF IN (io) "Voltage Reference Output/Input. The part can be used with either its own internal reference or with an external reference source. The on-chip 2.5 V reference voltage is provided at this pin. When using this internal (See Datasheet)"